# EAGLE library part NC7SB3157P6X (library !stavebnice03)
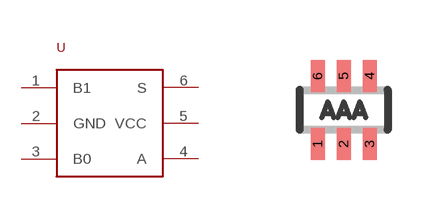
[diagram p3: symbol with the pads of SC70-6L; footprint SC70-6L]

Designator prefix -

## NC7SB3157P6X  [SC70-6L]
1  B1
2  GND  pwr
3  B0
4  A
5  VCC  pwr
6  S

## Footprint SC70-6L (pad centres in mm)
smd 0.35 x 0.8: 1 -0.65,-0.85; 2 0,-0.85; 3 0.65,-0.85; 4 0.65,0.85; 5 0,0.85; 6 -0.65,0.85